# Altium footprint library dc_dc_converters.PcbLib: 9 footprints
Each footprint in its own frame and in the unit in brackets; x right, y up, seen from the top. Pads: shape width x height; smd on the part's side, far side on the other; paste and mask are expansions set on the pad; w line width, h text height; cw(c..) or ccw(c..) is an arc to the next point about the centre after c.
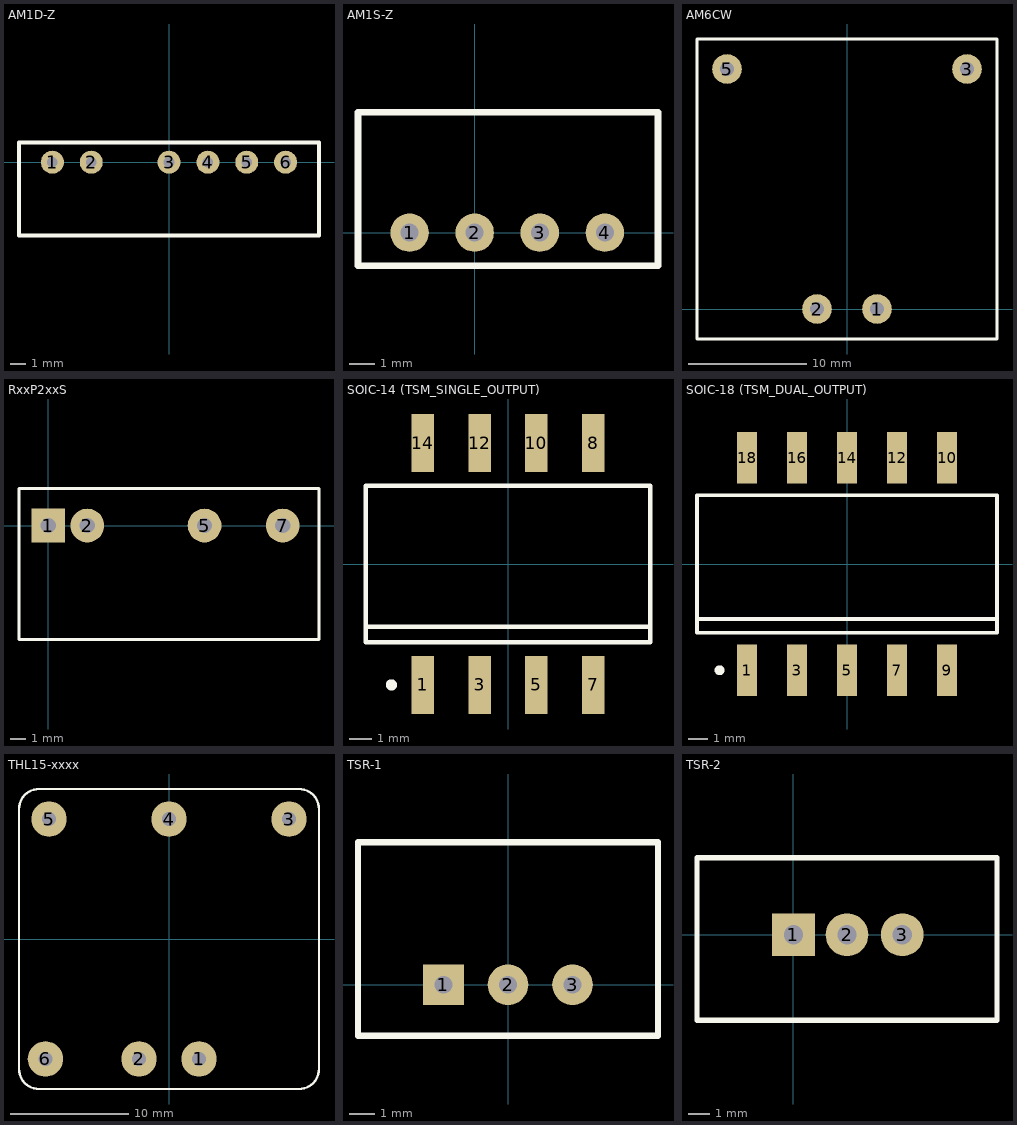
[diagram p0: the footprints below, top view; thin cyan lines are the x and y axes]

## AM1D-Z [mm] "1 Watt DC-DC Converter, 7 Pin SIP Package"
height 9.5
pads (6):
  round 1.5 hole 0.7: 1(-7.62,0) 2(-5.08,0) 3(0,0) 4(2.54,0) 5(5.08,0) 6(7.62,0)
Top Overlay:
  lines w0.254: -9.8,-4.8 9.8,-4.8 9.8,1.3 -9.8,1.3 -9.8,-4.8
3D body "User Library-AM1D-0505S.step": height 10, standoff -3.05, extent -9.75,-4.76 9.75,1.25

## AM1S-Z [mm] "1Watt DC-DC Converter, 4 Pin SIP Package"
height 9.65
pads (4):
  round 1.5 hole 0.7: 1(-2.54,0) 2(0,0) 3(2.54,0) 4(5.08,0)
Top Overlay:
  lines w0.254: -4.55,-1.3 7.15,-1.3 7.15,4.7 -4.55,4.7 -4.55,-1.3
3D body "User Library-4-Lead SIP_AM1S-1205SZ_Aimtec_DC-DC_Converter_1_Watt.step": height 10.2, standoff -3, extent -4.542,-1.3 7.142,4.7

## AM6CW [mm] "Aimtec AM6CW Series 6W DC/DC Converter"
height 11.7
pads (4):
  round 2.5 hole 1.2: 1(2.54,0) 2(-2.54,0) 3(10.16,20.32) 5(-10.16,20.32)
Top Overlay:
  lines w0.254: -12.7,-2.54 -12.7,22.86 12.7,22.86 12.7,-2.54 -12.7,-2.54
3D body: height 11.7, standoff 0, extent -12.7,-2.54 12.7,22.86

## RxxP2xxS [mm] "Recom RxxP2xxS Series DC/DC Converter"
pads (4):
  rect 2.2x2.2 hole 1: 1(0,0)
  round 2.2 hole 1: 2(2.54,0) 5(10.16,0) 7(15.24,0)
Top Overlay:
  lines w0.2: -1.9,-7.4 -1.9,2.4 17.6,2.4 17.6,-7.4 -1.9,-7.4
3D body: height 0, standoff -1.9, extent 14.843,-0.399 15.64,0.399
3D body: height 0, standoff -1.9, extent 9.763,-0.399 10.56,0.399
3D body: height 0, standoff -1.9, extent 2.143,-0.399 2.94,0.399
3D body: height 0, standoff -1.9, extent -0.397,-0.399 0.4,0.399
3D body: height 12.5, standoff 0, extent -1.9,-7.4 17.6,2.4

## SOIC-14 (TSM_SINGLE_OUTPUT) [mm] "Traco Power TSM Series Single Output Models"
height 7.8
pads (8):
  rect 1x2.6 smd: 1(-3.81,-5.397) 3(-1.27,-5.397) 5(1.27,-5.397) 7(3.81,-5.397) 8(3.81,5.397) 10(1.27,5.397) 12(-1.27,5.397) 14(-3.81,5.397)
Top Overlay:
  circle w0.25: c-5.205,-5.397 r0.125
  lines w0.2: -6.35,-2.794 6.35,-2.794 ; -6.35,-3.492 6.35,-3.492 6.35,-0.953 6.35,3.492 -6.35,3.492 -6.35,-0.953 -6.35,-3.492

## SOIC-18 (TSM_DUAL_OUTPUT) [mm] "Traco Power TSM Series Dual Output Models"
height 6.7
pads (10):
  rect 1x2.6 smd: 1(-5.08,-5.397) 3(-2.54,-5.397) 5(0,-5.397) 7(2.54,-5.397) 9(5.08,-5.397) 10(5.08,5.397) 12(2.54,5.397) 14(0,5.397) 16(-2.54,5.397) 18(-5.08,5.397)
Top Overlay:
  circle w0.25: c-6.475,-5.397 r0.125
  lines w0.2: -7.62,-2.794 7.62,-2.794 ; -7.62,-3.492 -7.62,-0.953 -7.62,3.492 7.62,3.492 7.62,-0.953 7.62,-3.492 -7.62,-3.492

## THL15-xxxx [mm]
pads (6):
  round 3 hole 1.2: 1(2.54,-10.15) 2(-2.54,-10.15) 3(10.16,10.15) 4(0,10.15) 5(-10.16,10.15) 6(-10.46,-10.15)
Top Overlay:
  lines w0.2: -12.7,-11 ccw(c-11,-11) -11,-12.7 11,-12.7 ccw(c11,-11) 12.7,-11 12.7,11 ccw(c11,11) 11,12.7 -11,12.7 ccw(c-11,11) -12.7,11 -12.7,-11
3D body "thl15wi.stp": height 10.16, standoff -6, extent -12.7,-12.7 12.7,12.7

## TSR-1 [mm] "Traco Power TSR-1 Series 1A DC/DC Converter"
pads (3):
  rect 1.6x1.6 hole 0.7: 1(-2.54,0)
  round 1.6 hole 0.7: 2(0,0) 3(2.54,0)
Top Overlay:
  lines w0.254: -5.9,-2 -5.9,5.6 5.9,5.6 5.9,-2 -5.9,-2
3D body "User Library-Traco TRS 1-2450.step": height 10.2, standoff -4.1, extent -5.85,-2.032 5.85,5.583
3D body: height 0, standoff -7.6, extent 7.4,3.9 7.4,3.9
3D body: height 2.5, standoff -2.5, extent 0,0 0,0

## TSR-2 [mm] "Traco Power TSR-1 Series 1A DC/DC Converter"
pads (3):
  rect 2x2 hole 0.9: 1(0,0)
  round 2 hole 0.9: 2(2.5,0) 3(5.08,0)
Top Overlay:
  lines w0.254: -4.5,-4 -4.5,3.6 9.5,3.6 9.5,-4 -4.5,-4
3D body "User Library-TSR-2.step": height 10.1, standoff -4.1, extent -4.5,-3.95 9.5,3.55
3D body: height 0, standoff -7.6, extent 9.9,3.9 9.9,3.9
3D body: height 2.5, standoff -2.5, extent 2.5,0 2.5,0